# EAGLE library part AD536ASE (library analog-devices)
Monolithic RMS to DC Converter
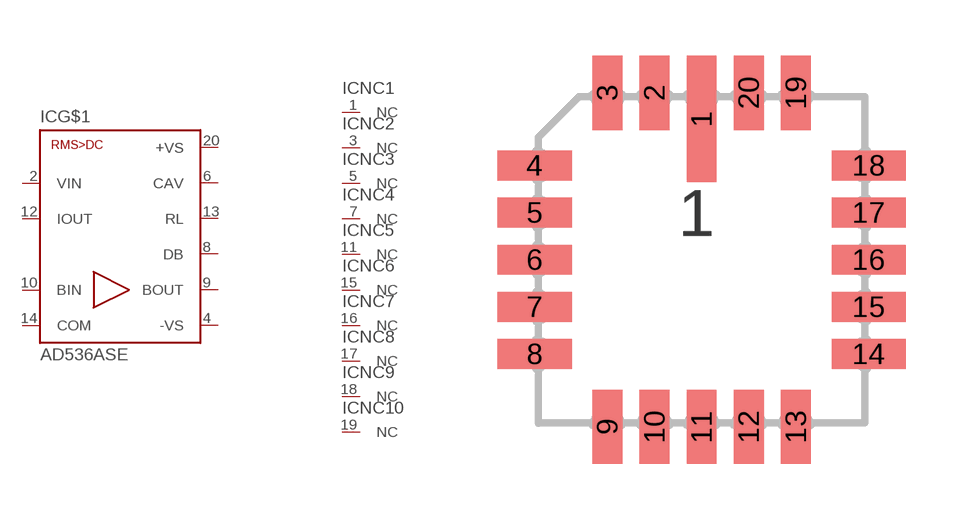
[diagram p9: symbol with the pads of LCC20; footprint LCC20]

Designator prefix IC; gates G$1=AD536 NC1=NC NC2=NC NC3=NC NC4=NC NC5=NC NC6=NC NC7=NC NC8=NC NC9=NC NC10=NC

## AD536ASE  [LCC20]
1  NC1:NC  nc
2  G$1:VIN  in
3  NC2:NC  nc
4  G$1:-VS  pwr
5  NC3:NC  nc
6  G$1:CAV  out
7  NC4:NC  nc
8  G$1:DB  out
9  G$1:BOUT  out
10  G$1:BIN  in
11  NC5:NC  nc
12  G$1:IOUT  out
13  G$1:RL  pas
14  G$1:COM  pwr
15  NC6:NC  nc
16  NC7:NC  nc
17  NC8:NC  nc
18  NC9:NC  nc
19  NC10:NC  nc
20  G$1:+VS  pwr

## Footprint LCC20 (pad centres in mm)
smd 0.8 x 3.4: 1 0,3.8
smd 0.8 x 2: 2 -1.27,4.5; 3 -2.54,4.5; 9 -2.54,-4.5; 10 -1.27,-4.5; 11 0,-4.5; 12 1.27,-4.5; 13 2.54,-4.5; 19 2.54,4.5; 20 1.27,4.5
smd 2 x 0.8: 4 -4.5,2.54; 5 -4.5,1.27; 6 -4.5,0; 7 -4.5,-1.27; 8 -4.5,-2.54; 14 4.5,-2.54; 15 4.5,-1.27; 16 4.5,0; 17 4.5,1.27; 18 4.5,2.54